# Altium schematic symbol library Schlib1.SchLib: 38 symbols
Pins are listed as number, name and electrical type; pins without a type are passive.

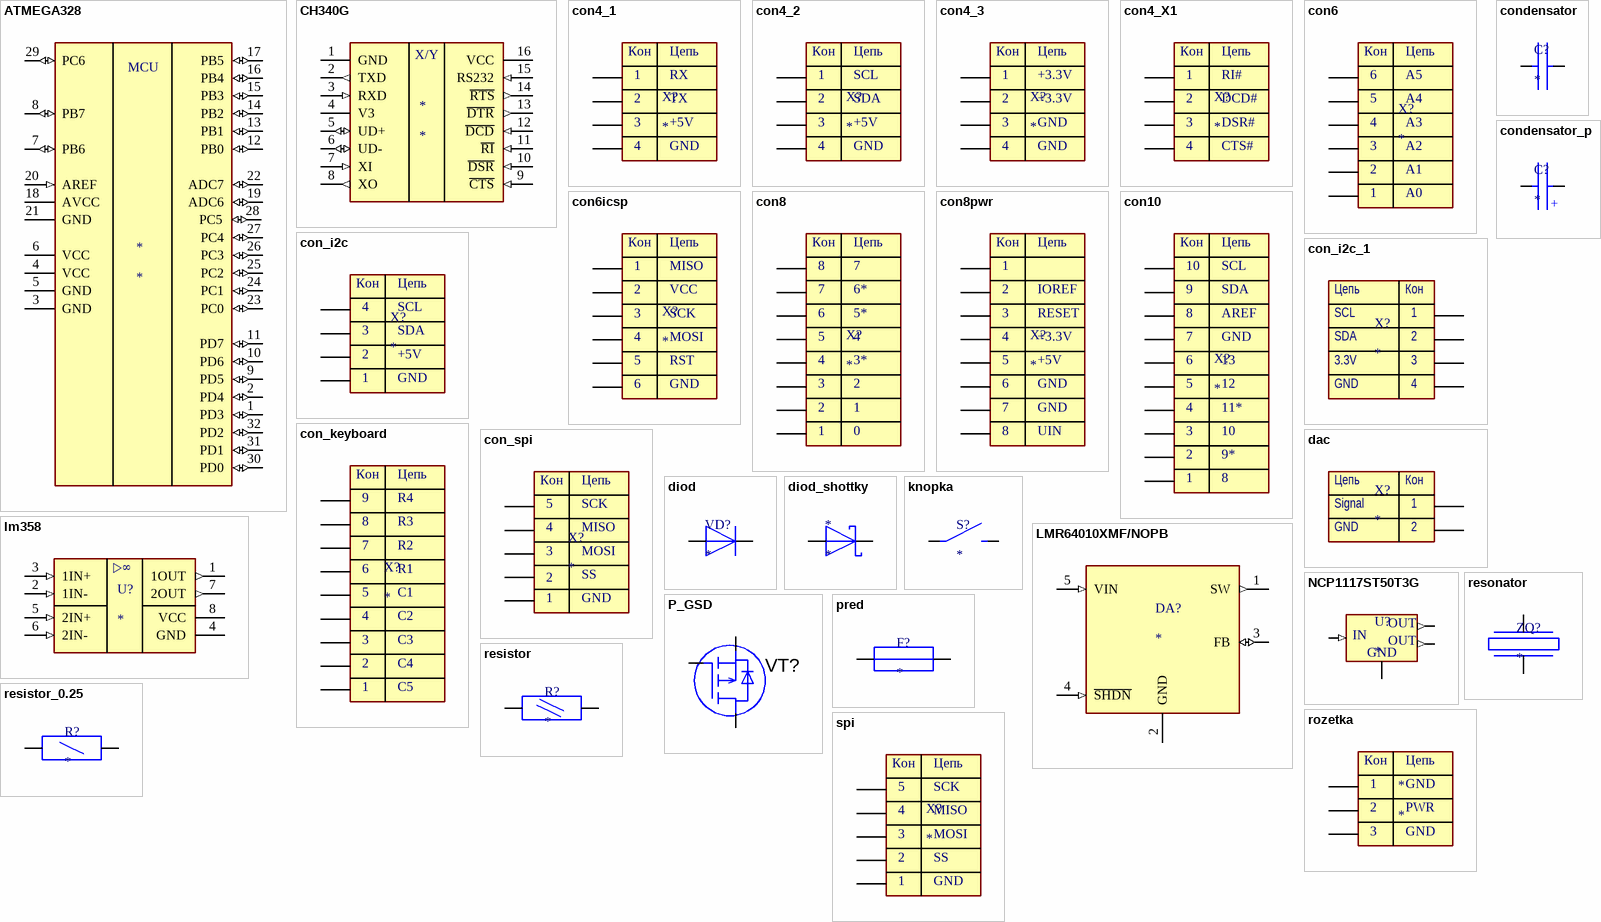
[diagram p0: symbols ATMEGA328 to spi]

## ATMEGA328
designator *
footprint TQFP32
pins: 1 PD3 (io), 2 PD4 (io), 3 GND (power), 4 VCC (power), 5 GND (power), 6 VCC (power), 7 PB6 (io), 8 PB7 (io), 9 PD5 (io), 10 PD6 (io), 11 PD7 (io), 12 PB0 (io), 13 PB1 (io), 14 PB2 (io), 15 PB3 (io), 16 PB4 (io), 17 PB5 (io), 18 AVCC (power), 19 ADC6 (io), 20 AREF (in), 21 GND (power), 22 ADC7 (io), 23 PC0 (io), 24 PC1 (io), 25 PC2 (io), 26 PC3 (io), 27 PC4 (io), 28 PC5 (io), 29 PC6 (io), 30 PD0 (io), 31 PD1 (io), 32 PD2 (io)
text: MCU

## CH340G
designator *
pins: 1 GND (power), 2 TXD (out), 3 RXD (in), 4 V3 (power), 5 UD+ (io), 6 UD- (io), 7 XI (in), 8 XO (out), 9 ~{CTS} (in), 10 ~{DSR} (in), 11 ~{RI} (in), 12 ~{DCD} (in), 13 ~{DTR} (out), 14 ~{RTS} (out), 15 RS232 (in), 16 VCC (power)
text: X/Y

## con4_1
designator X?
pins: 1, 2, 3, 4
text: Кон; Цепь; RX; TX; +5V; GND

## con4_2
designator X?
pins: 1, 2, 3, 4
text: Кон; Цепь; SCL; SDA; +5V; GND

## con4_3
designator X?
pins: 1, 2, 3, 4
text: Кон; Цепь; +3.3V; GND

## con4_X1
designator X?
pins: 1, 2, 3, 4
text: Кон; Цепь; RI#; DCD#; DSR#; CTS#

## con6
designator X?
pins: 1, 2, 3, 4, 5, 6
text: Кон; Цепь; A5; A4; A3; A2; A1; A0

## con6icsp
designator X?
pins: 1, 2, 3, 4, 5, 6
text: Кон; Цепь; MISO; VCC; SCK; MOSI; RST; GND

## con8
designator X?
pins: 1, 2, 3, 4, 5, 6, 7, 8
text: Кон; Цепь; 6*; 5*; 3*; 0

## con8pwr
designator X?
pins: 1, 2, 3, 4, 5, 6, 7, 8
text: Кон; Цепь; IOREF; RESET; +3.3V; +5V; GND; UIN

## con10
designator X?
pins: 1, 2, 3, 4, 5, 6, 7, 8, 9, 10
text: Кон; Цепь; SCL; SDA; AREF; GND; 13; 12; 11*; 9*

## con_i2c
designator X?
pins: 1, 2, 3, 4
text: Кон; Цепь; SCL; SDA; +5V; GND

## con_i2c_1
designator X?
pins: 1, 2, 3, 4
text: Цепь; Кон; SCL; SDA; 3.3V; GND

## con_keyboard
designator X?
pins: 1, 2, 3, 4, 5, 6, 7, 8, 9
text: Кон; Цепь; R4; R3; R2; R1; C1; C2; C3; C4; C5

## con_spi
designator X?
pins: 1, 2, 3, 4, 5
text: Кон; Цепь; SCK; MISO; MOSI; SS; GND

## condensator
designator C?
pins: 1, 2

## condensator_p
designator C?
pins: 1, 2
text: +

## dac
designator X?
pins: 1, 2
text: Цепь; Кон; Signal; GND

## diod
designator VD?
footprint diodm7
pins: 1, 2

## diod_shottky
designator *
pins: 1, 2

## knopka
designator S?
pins: 1, 2

## lm358
designator U?
footprint SOP8
pins: 1 1OUT (out), 2 1IN- (in), 3 1IN+ (in), 4 GND (power), 5 2IN+ (in), 6 2IN- (in), 7 2OUT (out), 8 VCC (power)
text: ▷∞

## LMR64010XMF/NOPB
designator DA?
footprint SOT-23-5
pins: 1 SW (out), 2 GND (power), 3 FB (io), 4 ~{SHDN} (in), 5 VIN (in)

## NCP1117ST50T3G
designator U?
footprint sot223
pins: 1, 2 (out), 3 (in), 4 (out)
text: OUT; IN; GND

## P_GSD
designator VT?
pins: 1 g, 2 s, 3 d

## pred
designator F?
pins: 1, 2

## resistor
designator R?
footprint smd1206
pins: 1, 2

## resistor_0.25
designator R?
footprint smd1206
pins: 1, 2

## resonator
designator ZQ?
pins: 1, 2

## rozetka
designator *
footprint rozetka
pins: 1, 2, 3
text: Кон; Цепь; GND; PWR

## spi
designator X?
pins: 1, 2, 3, 4, 5
text: Кон; Цепь; SCK; MISO; MOSI; SS; GND

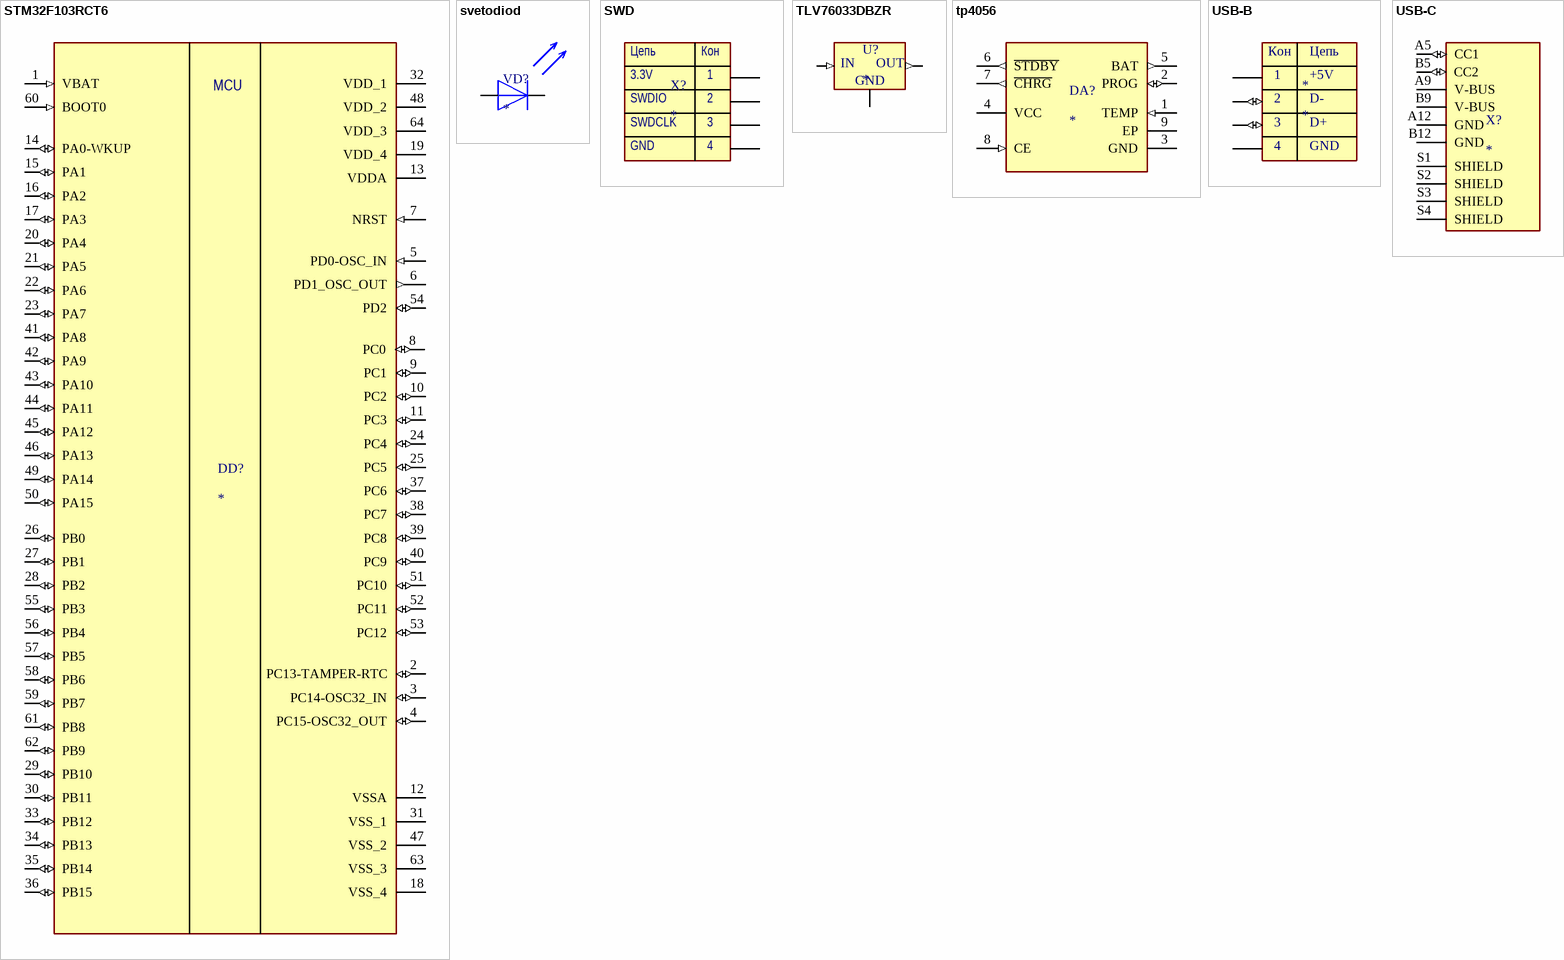
[diagram p1: symbols STM32F103RCT6 to USB-C]

## STM32F103RCT6
designator DD?
pins: 1 VBAT (in), 2 PC13-TAMPER-RTC (io), 3 PC14-OSC32_IN (io), 4 PC15-OSC32_OUT (io), 5 PD0-OSC_IN (in), 6 PD1_OSC_OUT (out), 7 NRST (in), 8 PC0 (io), 9 PC1 (io), 10 PC2 (io), 11 PC3 (io), 12 VSSA (power), 13 VDDA (power), 14 PA0-WKUP (io), 15 PA1 (io), 16 PA2 (io), 17 PA3 (io), 18 VSS_4 (power), 19 VDD_4 (power), 20 PA4 (io), 21 PA5 (io), 22 PA6 (io), 23 PA7 (io), 24 PC4 (io), 25 PC5 (io), 26 PB0 (io), 27 PB1 (io), 28 PB2 (io), 29 PB10 (io), 30 PB11 (io), 31 VSS_1 (power), 32 VDD_1 (power), 33 PB12 (io), 34 PB13 (io), 35 PB14 (io), 36 PB15 (io), 37 PC6 (io), 38 PC7 (io), 39 PC8 (io), 40 PC9 (io), 41 PA8 (io), 42 PA9 (io), 43 PA10 (io), 44 PA11 (io), 45 PA12 (io), 46 PA13 (io), 47 VSS_2 (power), 48 VDD_2 (power), 49 PA14 (io), 50 PA15 (io), 51 PC10 (io), 52 PC11 (io), 53 PC12 (io), 54 PD2 (io), 55 PB3 (io), 56 PB4 (io), 57 PB5 (io), 58 PB6 (io), 59 PB7 (io), 60 BOOT0 (in), 61 PB8 (io), 62 PB9 (io), 63 VSS_3 (power), 64 VDD_3 (power)
text: MCU

## svetodiod
designator VD?
pins: 1, 2

## SWD
designator X?
pins: 1, 2, 3, 4
text: Цепь; Кон; 3.3V; SWDIO; SWDCLK; GND

## TLV76033DBZR
designator U?
footprint SOT23-3
pins: 1, 2 (out), 3 (in)
text: IN; OUT; GND

## tp4056
designator DA?
footprint ESOP-8
pins: 1 TEMP (in), 2 PROG (io), 3 GND (power), 4 VCC (power), 5 BAT (out), 6 ~{STDBY} (out), 7 ~{CHRG} (out), 8 CE (in), 9 EP

## USB-B
designator *
footprint USB-B
pins: 1, 2 (io), 3 (io), 4
text: Кон; Цепь; +5V; D-; D+; GND

## USB-C
designator X?
footprint USB-C
pins: A5 CC1 (io), A9 V-BUS (power), A12 GND (power), B5 CC2 (io), B9 V-BUS (power), B12 GND (power), S1 SHIELD, S2 SHIELD, S3 SHIELD, S4 SHIELD